# EAGLE library part 74HC14 (library ASL)
Hex schmitt trigger INVERTER
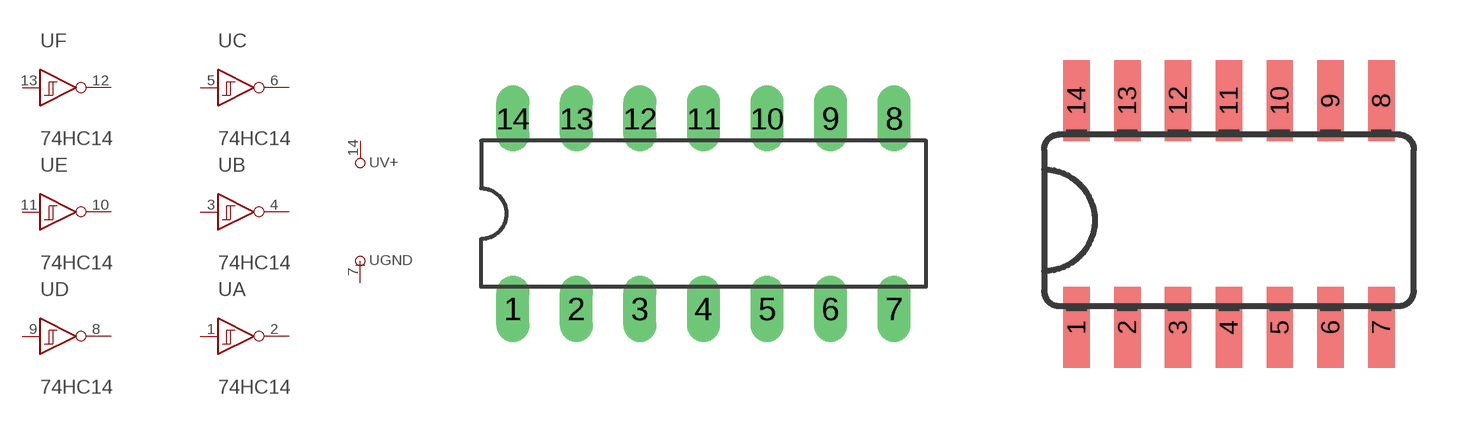
[diagram p11: symbol with the pads of DIL14; footprints DIL14, SO014]

Designator prefix U; gates V+=+UB GND=-UB A=14 B=14 C=14 D=14 E=14 F=14

## 74HC14N  [DIL14]
1  A:A  in
2  A:Y  out
3  B:A  in
4  B:Y  out
5  C:A  in
6  C:Y  out
7  GND:-UB  pwr
8  D:Y  out
9  D:A  in
10  E:Y  out
11  E:A  in
12  F:Y  out
13  F:A  in
14  V+:+UB  pwr

## 74HC14  [SO014]
Pads as for DIL14

## Footprint DIL14 (pad centres in mm)
Dual In Line Package
drill 0.813 long: 1 -7.62,-3.81; 2 -5.08,-3.81; 3 -2.54,-3.81; 4 0,-3.81; 5 2.54,-3.81; 6 5.08,-3.81; 7 7.62,-3.81; 8 7.62,3.81; 9 5.08,3.81; 10 2.54,3.81; 11 0,3.81; 12 -2.54,3.81; 13 -5.08,3.81; 14 -7.62,3.81

## Footprint SO014 (pad centres in mm)
smd 0.66 x 2.032: 1 -3.175,-2.68; 2 -1.905,-2.68; 3 -0.635,-2.68; 4 0.635,-2.68; 5 1.905,-2.68; 6 3.175,-2.68; 7 4.445,-2.68; 8 4.445,2.997; 9 3.175,2.997; 10 1.905,2.997; 11 0.635,2.997; 12 -0.635,2.997; 13 -1.905,2.997; 14 -3.175,2.997